# EAGLE library part RFM95W-868S2 (library RTR Main Library)
RFM95 Transceiver
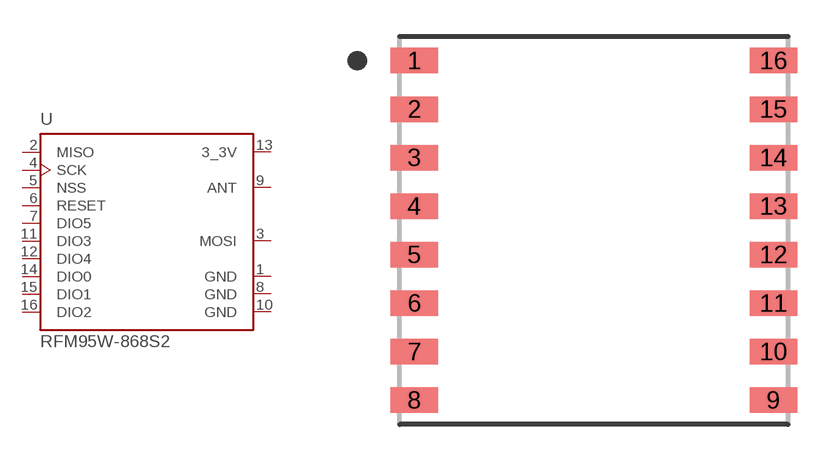
[diagram p1: symbol with the pads of XCVR_RFM95W-868S2; footprint XCVR_RFM95W-868S2]

Designator prefix U

## RFM95W-868S2 (AVAILABILITY: Unavailable; MF: RF; MP: RFM95W-868S2; PACKAGE: SMD-16 Hope Microelectronics; PRICE: None)  [XCVR_RFM95W-868S2]
1  GND  pwr
2  MISO  in
3  MOSI  out
4  SCK  in
5  NSS  in
6  RESET
7  DIO5
8  GND  pwr
9  ANT  pas
10  GND  pwr
11  DIO3
12  DIO4
13  3_3V  pwr
14  DIO0
15  DIO1
16  DIO2

## Footprint XCVR_RFM95W-868S2 (pad centres in mm)
smd 1.95 x 1.05: 1 -7.4,7; 2 -7.4,5; 3 -7.4,3; 4 -7.4,1; 5 -7.4,-1; 6 -7.4,-3; 7 -7.4,-5; 8 -7.4,-7; 9 7.4,-7; 10 7.4,-5; 11 7.4,-3; 12 7.4,-1; 13 7.4,1; 14 7.4,3; 15 7.4,5; 16 7.4,7